# Altium footprint library O_JonF_DaveL.PcbLib: 331 footprints (part 2 of 21)
Each footprint in its own frame and in the unit in brackets; x right, y up, seen from the top. Pads: shape width x height; smd on the part's side, far side on the other; paste and mask are expansions set on the pad; w line width, h text height; cw(c..) or ccw(c..) is an arc to the next point about the centre after c.
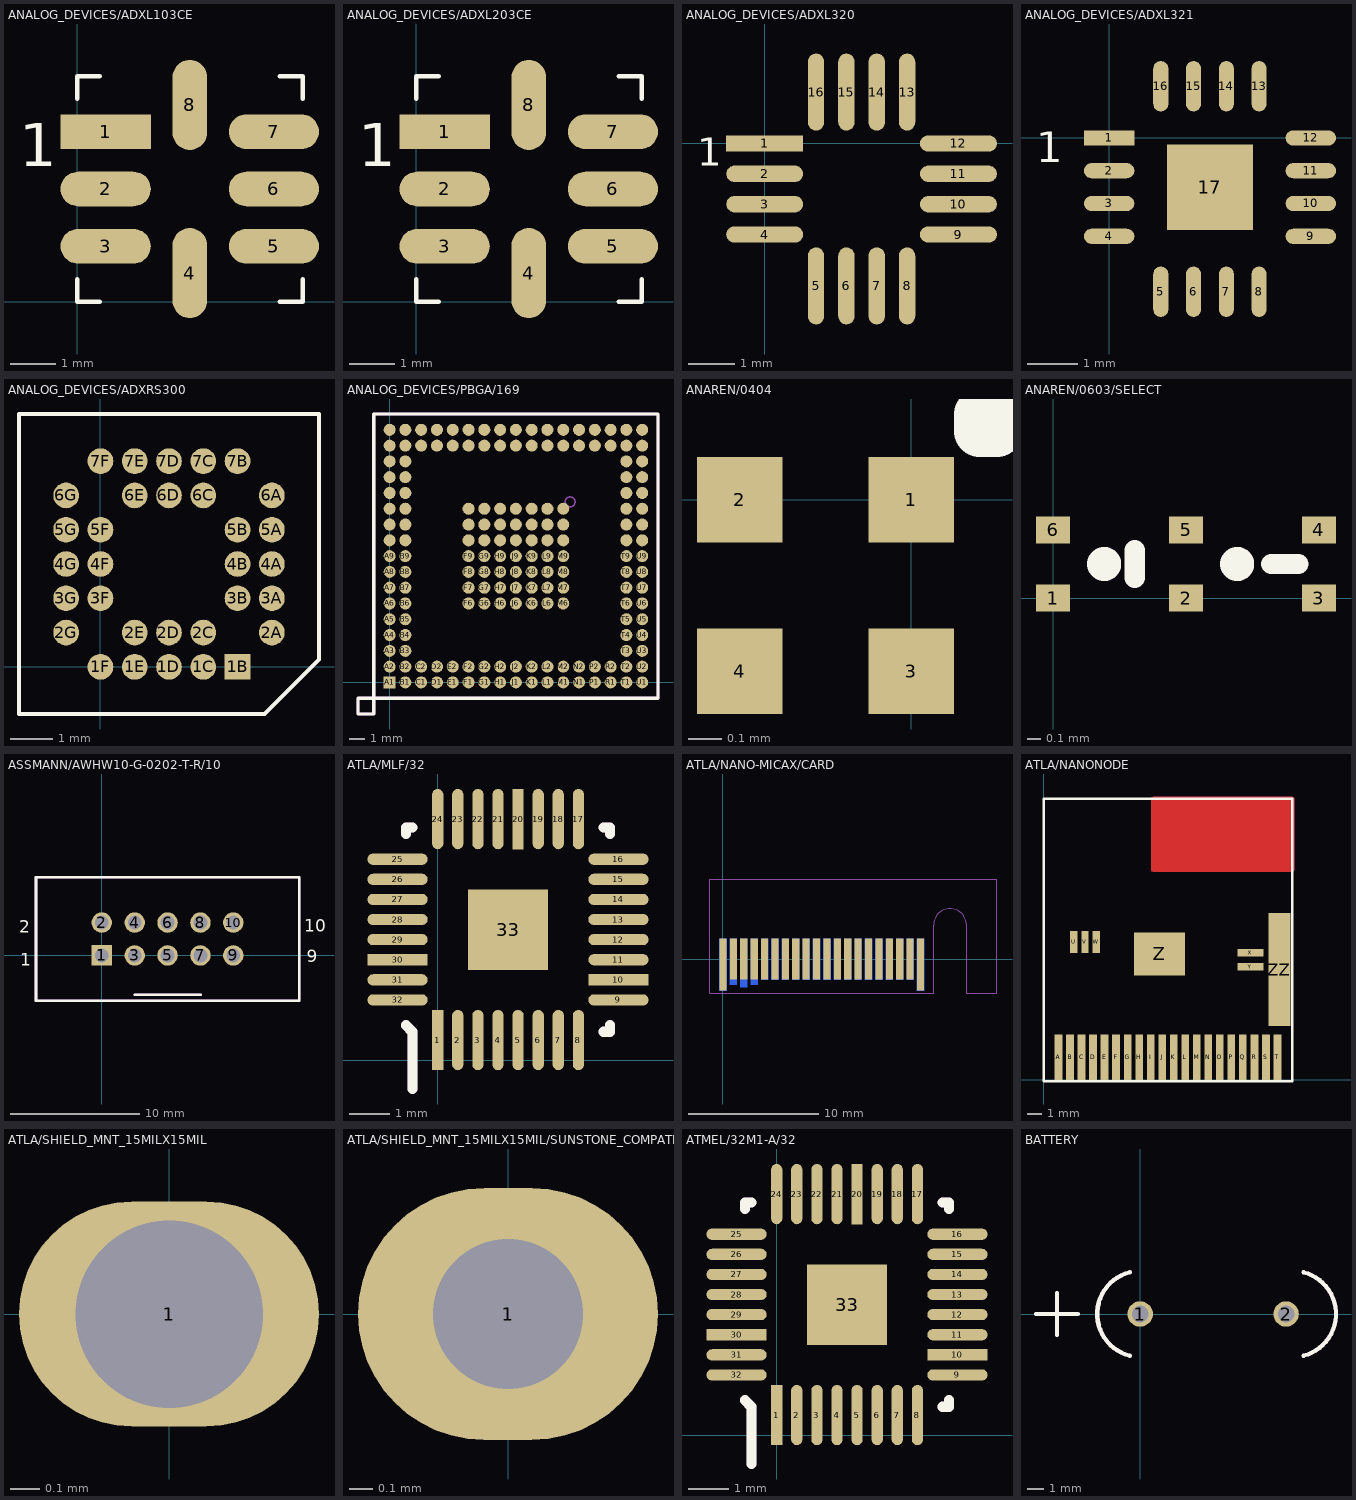
[diagram p1: the footprints below, top view; thin cyan lines are the x and y axes]

## ANALOG_DEVICES/ADXL103CE [mm]
pads (8):
  rect 2x0.768 smd: 1(0.635,3.77)
  oval 2x0.768 smd: 2(0.635,2.5) 3(0.635,1.23) 5(4.365,1.23) 6(4.365,2.5) 7(4.365,3.77)
  oval 0.768x2 smd: 4(2.5,0.635) 8(2.5,4.365)
Top Overlay:
  lines w0.1: 0,0.5 0,0 0.5,0 ; 0,4.5 0,5 0.5,5 ; 4.5,0 5,0 5,0.5 ; 4.5,5 5,5 5,4.5
  text "." at 2.381,2.716 h0.38
  text "1" at -1.288,3.01 h0.95
  text ".Designator" at -0.029,-2.146 h0.95
Mechanical 1:
  text ".Comment" at 0.055,-2.853 h0.95
  text ".Designator" at 6.191,-1.116 h0.95
  text ".Pattern" at -6.213,6.174 h0.57

## ANALOG_DEVICES/ADXL203CE [mm]
pads (8):
  rect 2x0.768 smd: 1(0.635,3.77)
  oval 2x0.768 smd: 2(0.635,2.5) 3(0.635,1.23) 5(4.365,1.23) 6(4.365,2.5) 7(4.365,3.77)
  oval 0.768x2 smd: 4(2.5,0.635) 8(2.5,4.365)
Top Overlay:
  lines w0.1: 0,0.5 0,0 0.5,0 ; 0,4.5 0,5 0.5,5 ; 4.5,0 5,0 5,0.5 ; 4.5,5 5,5 5,4.5
  text ".Designator" at -0.029,-2.146 h0.95
  text "1" at -1.288,3.01 h0.95
  text "." at 2.394,2.745 h0.38
Mechanical 1:
  text ".Pattern" at -6.213,6.174 h0.57
  text ".Designator" at 6.191,-1.116 h0.95
  text ".Comment" at 0.055,-2.853 h0.95

## ANALOG_DEVICES/ADXL320 [mm]
pads (16):
  rect 1.65x0.35 smd: 1(0,0)
  oval 1.65x0.35 smd: 2(0,-0.65) 3(0,-1.3) 4(0,-1.95) 9(4.15,-1.95) 10(4.15,-1.3) 11(4.15,-0.65) 12(4.15,0)
  oval 0.35x1.65 smd: 5(1.1,-3.05) 6(1.75,-3.05) 7(2.4,-3.05) 8(3.05,-3.05) 13(3.05,1.1) 14(2.4,1.1) 15(1.75,1.1) 16(1.1,1.1)
Top Overlay:
  text "1" at -1.45,-0.48 h0.6
  text ".Designator" at -1.46,2.58 h1.5
Mechanical 1:
  text ".Designator" at -1.5,2.63 h1.5
  text ".Comment" at -2.65,-11.42 h1.5
  text ".Pattern" at -1.89,-6.85 h1.5

## ANALOG_DEVICES/ADXL321 [mm]
pads (17):
  rect 1x0.3 smd: 1(0,0)
  oval 1x0.3 smd: 2(0,-0.65) 3(0,-1.3) 4(0,-1.95) 9(4,-1.95) 10(4,-1.3) 11(4,-0.65) 12(4,0)
  oval 0.3x1 smd: 5(1.025,-3.05) 6(1.675,-3.05) 7(2.325,-3.05) 8(2.975,-3.05) 13(2.975,1.025) 14(2.325,1.025) 15(1.675,1.025) 16(1.025,1.025)
  rect 1.7x1.7 smd: 17(2,-0.975)
Top Overlay:
  text ".Designator" at -1.46,2.58 h1.5
  text "1" at -1.45,-0.48 h0.6
Mechanical 1:
  text ".Designator" at -1.5,2.63 h1.5
  text ".Comment" at -2.65,-11.42 h1.5
  text ".Pattern" at -1.89,-6.85 h1.5

## ANALOG_DEVICES/ADXRS300 [mm]
pads (32):
  rect 0.6x0.6 smd: 1B(3.2,0)
  round 0.6 smd: 1C(2.4,0) 1D(1.6,0) 1E(0.8,0) 1F(0,0) 2A(4,0.8) 2C(2.4,0.8) 2D(1.6,0.8) 2E(0.8,0.8) 2G(-0.8,0.8) 3A(4,1.6) 3B(3.2,1.6) 3F(0,1.6) 3G(-0.8,1.6) 4A(4,2.4) 4B(3.2,2.4) 4F(0,2.4) 4G(-0.8,2.4) 5A(4,3.2) 5B(3.2,3.2) 5F(0,3.2) 5G(-0.8,3.2) 6A(4,4) 6C(2.4,4) 6D(1.6,4) 6E(0.8,4) 6G(-0.8,4) 7B(3.2,4.8) 7C(2.4,4.8) 7D(1.6,4.8) 7E(0.8,4.8) 7F(0,4.8)
Top Overlay:
  lines w0.1: -1.9,-1.1 -1.9,5.9 5.1,5.9 5.1,0.173 3.827,-1.1 -1.9,-1.1
  text ".Designator" at -1.916,6.276 h1.5
Mechanical 1:
  text ".Designator" at -1.915,6.233 h1.5
  text ".Comment" at -2.235,10.216 h1.5
  text ".Pattern" at -14.024,-3.786 h1.5

## ANALOG_DEVICES/PBGA/169 [mil]
pads (169):
  rect 30x30 smd: A1(0,0)
  round 30 smd: A2(0,39.37) A3(0,78.74) A4(0,118.11) A5(0,157.48) A6(0,196.85) A7(0,236.22) A8(0,275.59) A9(0,314.96) A10(0,354.33) A11(0,393.7) A12(0,433.07) A13(0,472.44) A14(0,511.81) A15(0,551.18) A16(0,590.55) A17(0,629.92) B1(39.37,0) B2(39.37,39.37) B3(39.37,78.74) B4(39.37,118.11) B5(39.37,157.48) B6(39.37,196.85) B7(39.37,236.22) B8(39.37,275.59) B9(39.37,314.96) B10(39.37,354.33) B11(39.37,393.7) B12(39.37,433.07) B13(39.37,472.44) B14(39.37,511.81) B15(39.37,551.18) B16(39.37,590.55) B17(39.37,629.92) C1(78.74,0) C2(78.74,39.37) C16(78.74,590.55) C17(78.74,629.92) D1(118.11,0) D2(118.11,39.37) D16(118.11,590.55) D17(118.11,629.92) E1(157.48,0) E2(157.48,39.37) E16(157.48,590.55) E17(157.48,629.92) F1(196.85,0) F2(196.85,39.37) F6(196.85,196.85) F7(196.85,236.22) F8(196.85,275.59) F9(196.85,314.96) F10(196.85,354.33) F11(196.85,393.7) F12(196.85,433.07) F16(196.85,590.55) F17(196.85,629.92) G1(236.22,0) G2(236.22,39.37) G6(236.22,196.85) G7(236.22,236.22) G8(236.22,275.59) G9(236.22,314.96) G10(236.22,354.33) G11(236.22,393.7) G12(236.22,433.07) G16(236.22,590.55) G17(236.22,629.92) H1(275.59,0) H2(275.59,39.37) H6(275.59,196.85) H7(275.59,236.22) H8(275.59,275.59) H9(275.59,314.96) H10(275.59,354.33) H11(275.59,393.7) H12(275.59,433.07) H16(275.59,590.55) H17(275.59,629.92) J1(314.96,0) J2(314.96,39.37) J6(314.96,196.85) J7(314.96,236.22) J8(314.96,275.59) J9(314.96,314.96) J10(314.96,354.33) J11(314.96,393.7) J12(314.96,433.07) J16(314.96,590.55) J17(314.96,629.92) K1(354.33,0) K2(354.33,39.37) K6(354.33,196.85) K7(354.33,236.22) K8(354.33,275.59) K9(354.33,314.96) K10(354.33,354.33) K11(354.33,393.7) K12(354.33,433.07) K16(354.33,590.55) K17(354.33,629.92) L1(393.7,0) L2(393.7,39.37) L6(393.7,196.85) L7(393.7,236.22) L8(393.7,275.59) L9(393.7,314.96) L10(393.7,354.33) L11(393.7,393.7) L12(393.7,433.07) L16(393.7,590.55) L17(393.7,629.92) M1(433.07,0) M2(433.07,39.37) M6(433.07,196.85) M7(433.07,236.22) M8(433.07,275.59) M9(433.07,314.96) M10(433.07,354.33) M11(433.07,393.7) M12(433.07,433.07) M16(433.07,590.55) M17(433.07,629.92) N1(472.44,0) N2(472.44,39.37) N16(472.44,590.55) N17(472.44,629.92) P1(511.81,0) P2(511.81,39.37) P16(511.81,590.55) P17(511.81,629.92) R1(551.18,0) R2(551.18,39.37) R16(551.18,590.55) R17(551.18,629.92) T1(590.55,0) T2(590.55,39.37) T3(590.55,78.74) T4(590.55,118.11) T5(590.55,157.48) T6(590.55,196.85) T7(590.55,236.22) T8(590.55,275.59) T9(590.55,314.96) T10(590.55,354.33) T11(590.55,393.7) T12(590.55,433.07) T13(590.55,472.44) T14(590.55,511.81) T15(590.55,551.18) T16(590.55,590.55) T17(590.55,629.92) U1(629.92,0) U2(629.92,39.37) U3(629.92,78.74) U4(629.92,118.11) U5(629.92,157.48) U6(629.92,196.85) U7(629.92,236.22) U8(629.92,275.59) U9(629.92,314.96) U10(629.92,354.33) U11(629.92,393.7) U12(629.92,433.07) U13(629.92,472.44) U14(629.92,511.81) U15(629.92,551.18) U16(629.92,590.55) U17(629.92,629.92)
Top Overlay:
  lines w8: -78.74,-78.74 -78.74,-39.37 669.29,-39.37 669.29,669.29 -39.37,669.29 -39.37,-78.74 -78.74,-78.74
  text ".Designator" at -19.45,-155.62 h37.5
Mechanical 1:
  lines w8: -78.74,-78.74 -78.74,-39.37 669.29,-39.37 669.29,669.29 -39.37,669.29 -39.37,-78.74 -78.74,-78.74
  text ".Pattern" at 0,956.63 h22.5
  text ".Comment" at 84.78,91.23 h37.5
  text ".Designator" at 79.96,498.12 h37.5
Mechanical 3:
  lines w4: 437.5,450 ccw(c450,450) 450,437.5 ccw(c450,450) 462.5,450 ccw(c450,450) 450,462.5 ccw(c450,450) 437.5,450

## ANAREN/0404 [mil]
pads (4):
  rect 10x10 smd: 1(0,0) 2(-20,0) 3(0,-20) 4(-20,-20)
Top Overlay:
  lines w6: 8,8 8,10 10,10 10,8 8,8
  text ".Designator" at -29,9.5 h56.25
Mechanical 1:
  text ".Pattern" at 0,0 h56.25
  text ".Comment" at 0,225 h56.25
  text ".Designator" at 0,337.5 h56.25

## ANAREN/0603/SELECT [mil]
pads (6):
  rect 10x8 smd: 1(0,0) 2(39,0) 3(78,0) 4(78,20) 5(39,20) 6(0,20)
Top Overlay:
  circle w6: c15,10 r2
  circle w6: c54,10 r2
  lines w6: 24,6 24,14 ; 64,10 72,10
  text ".Designator" at 0,337.5 h56.25
Mechanical 1:
  text ".Pattern" at 0,0 h56.25
  text ".Comment" at 0,225 h56.25
  text ".Designator" at 0,337.5 h56.25

## ASSMANN/AWHW10-G-0202-T-R/10 [mil]
pads (10):
  rect 62x62 hole 42: 1(0,0)
  round 62 hole 42: 2(0,100) 3(100,0) 4(100,100) 5(200,0) 6(200,100) 7(300,0) 8(300,100) 9(400,0) 10(400,100)
Top Overlay:
  lines w8: 100,-120 300,-120 ; -200,-138 600,-138 600,238 -200,238 -200,-138
  text "2" at -251.88,68.37 h37.5
  text "9" at 623.12,-20.63 h37.5
  text "10" at 615.22,72.37 h37.5
  text ".Designator" at -206.95,251.88 h37.5
  text "1" at -247.88,-31.63 h37.5
Mechanical 1:
  lines w8: 100,-120 300,-120 ; -200,-138 600,-138 600,238 -200,238 -200,-138
  text "2" at -251.88,68.37 h37.5
  text "9" at 622.12,-20.63 h37.5
  text "10" at 616.22,72.37 h37.5
  text ".Designator" at -206.95,251.88 h37.5
  text ".Comment" at -205.33,124.87 h37.5
  text ".Pattern" at -203.15,181.62 h22.5
  text "1" at -246.88,-32.63 h37.5

## ATLA/MLF/32 [mm]
pads (33):
  rect 0.279x1.5 smd: 1(0,0.5) 20(2.002,6)
  oval 0.279x1.5 smd: 2(0.5,0.5) 3(1.001,0.5) 4(1.501,0.5) 5(2.002,0.5) 6(2.502,0.5) 7(3.002,0.5) 8(3.503,0.5) 17(3.503,6) 18(3.002,6) 19(2.502,6) 21(1.501,6) 22(1.001,6) 23(0.5,6) 24(0,6)
  oval 1.5x0.279 smd: 9(4.5,1.499) 11(4.5,2.499) 12(4.5,3) 13(4.5,3.5) 14(4.5,4) 15(4.5,4.501) 16(4.5,5.001) 25(-1,5.001) 26(-1,4.501) 27(-1,4) 28(-1,3.5) 29(-1,3) 31(-1,1.999) 32(-1,1.499)
  rect 1.5x0.279 smd: 10(4.5,1.999) 30(-1,2.499)
  rect 2x2 smd: 33(1.752,3.246)
Top Overlay:
  lines w0.254: -0.79,0.869 -0.63,0.709 -0.63,-0.719 ; -0.79,5.631 -0.79,5.789 -0.63,5.789 ; 4.133,0.709 4.29,0.709 4.29,0.869 ; 4.133,5.789 4.29,5.789 4.29,5.631
  text ".Designator" at -6.239,-0.767 h0.95
Mechanical 1:
  lines w0.254: -0.79,0.869 -0.63,0.709 -0.63,-0.719 ; -0.79,5.631 -0.79,5.789 -0.63,5.789 ; 4.133,0.709 4.29,0.709 4.29,0.869 ; 4.133,5.789 4.29,5.789 4.29,5.631
  text ".Pattern" at -2.012,1.195 h0.57
  text ".Comment" at -0.341,4.043 h0.95
  text ".Designator" at 0.11,2.407 h0.95
  text "17" at 3.408,5.297 h0.95
  text "1" at -0.19,1.201 h0.95
Mechanical 3:
  lines w0.102: 1.433,3.249 ccw(c1.75,3.249) 1.75,2.931 ccw(c1.75,3.249) 2.068,3.249 ccw(c1.75,3.249) 1.75,3.566 ccw(c1.75,3.249) 1.433,3.249

## ATLA/NANO-MICAX/CARD [mm]
pads (40):
  rect 0.55x4 smd: 1(0,-0.425) 39(15.2,-0.425)
  rect 0.55x4 smd far side: 2(0,-0.425) 40(15.2,-0.425)
  rect 0.55x3.15 smd: 3(0.8,0) 5(1.6,0) 7(2.4,0) 9(3.2,0) 11(4,0) 13(4.8,0) 15(5.6,0) 17(6.4,0) 19(7.2,0) 21(8,0) 23(8.8,0) 25(9.6,0) 27(10.4,0) 29(11.2,0) 31(12,0) 33(12.8,0) 35(13.6,0) 37(14.4,0)
  rect 0.55x3.55 smd far side: 4(0.8,-0.2) 8(2.4,-0.2)
  rect 0.55x3.75 smd far side: 6(1.6,-0.3)
  rect 0.55x3.15 smd far side: 10(3.2,0) 12(4,0) 14(4.8,0) 16(5.6,0) 18(6.4,0) 20(7.2,0) 22(8,0) 24(8.8,0) 26(9.6,0) 28(10.4,0) 30(11.2,0) 32(12,0) 34(12.8,0) 36(13.6,0) 38(14.4,0)
Top Solder:
  region: 17.642,1.676 17.658,1.638 17.658,-3 17.642,-3.038 17.604,-3.054 -1.782,-3.054 -1.82,-3.038 -1.836,-3 -1.836,1.638 -1.82,1.676 -1.782,1.692 17.604,1.692
Bottom Solder:
  region: 17.642,1.676 17.658,1.638 17.658,-3 17.642,-3.038 17.604,-3.054 -1.782,-3.054 -1.82,-3.038 -1.836,-3 -1.836,1.638 -1.82,1.676 -1.782,1.692 17.604,1.692
Mechanical 1:
  lines w0.001: -1.001,-2.625 16.199,-2.625 16.199,2.605 cw(c17.469,2.605) 18.739,2.605 18.739,-2.625 21.084,-2.625 21.084,6.143 -1.001,6.143 -1.001,-2.625
  text ".Designator" at -0.791,1.993 h1.5
  text "TO REMAINDER OF PCB" at 25.35,-0.225 h1.43
  text "EDGE OF PCB ON THIS SIDE" at -8.65,-6.225 h1.43

## ATLA/NANONODE [mil]
pads (27):
  rect 21.63x124 smd: A(41,62) B(72.48,62) C(104,62) D(135.48,62) E(167,62) F(198.47,62) G(229.97,62) H(261.47,62) I(292.97,62) J(324.45,62) K(355.95,62) L(387.45,62) M(418.95,62) N(450.43,62) O(481.93,62) P(513.43,62) Q(544.93,62) R(576.42,62) S(607.92,62) T(639.42,62)
  rect 20x60 smd: U(82.5,378) V(113,378) W(144,378)
  rect 70x20 smd: X(566,348) Y(566,310)
  rect 140x118 smd: Z(317,345)
  rect 60x310 smd: ZZ(645,302)
Top Layer:
  pour cut-out: 683.83,773.83 685.41,770 685.41,575 683.83,571.17 680,569.59 300,569.59 296.17,571.17 294.59,575 294.59,770 296.17,773.83 300,775.41 680,775.41
Mid-Layer 1:
  pour cut-out: 683.83,773.83 685.41,770 685.41,575 683.83,571.17 680,569.59 300,569.59 296.17,571.17 294.59,575 294.59,770 296.17,773.83 300,775.41 680,775.41
Bottom Layer:
  pour cut-out: 683.83,773.83 685.41,770 685.41,575 683.83,571.17 680,569.59 300,569.59 296.17,571.17 294.59,575 294.59,770 296.17,773.83 300,775.41 680,775.41
Top Overlay:
  lines w7: 0,-4 680,-4 680,770 0,770 0,-4
  text ".Designator" at 6,789.32 h59.05
Internal Plane 1:
  region: 683.83,773.83 685.41,770 685.41,575 683.83,571.17 680,569.59 300,569.59 296.17,571.17 294.59,575 294.59,770 296.17,773.83 300,775.41 680,775.41
Mechanical 1:
  text "VOID ALL METAL IN THIS SPACE -- ANTENNA" at 356,644 h30
  text ".Designator" at 715,355.32 h59.05
  text ".Comment" at 715,237.22 h59.05
  text ".Pattern" at 715,1 h59.05

## ATLA/SHIELD_MNT_15MILX15MIL [mil]
pads (1):
  oval 40x30 hole 25: 1(0,0)
Top Overlay:
  text ".Designator" at 0,337.5 h56.25
Mechanical 1:
  text ".Designator" at 0,337.5 h56.25
  text ".Comment" at 0,225 h56.25
  text ".Pattern" at 0,0 h56.25

## ATLA/SHIELD_MNT_15MILX15MIL/SUNSTONE_COMPATIBLE [mil]
pads (1):
  oval 50x42 / inner round 42 / far side oval 50x42 hole 25: 1(0,0)
Top Overlay:
  text ".Designator" at 0,337.5 h56.25
Mechanical 1:
  text ".Pattern" at 0,0 h56.25
  text ".Comment" at 0,225 h56.25
  text ".Designator" at 0,337.5 h56.25

## ATMEL/32M1-A/32 [mm]
pads (33):
  rect 0.279x1.5 smd: 1(0,0.5) 20(2.002,6)
  oval 0.279x1.5 smd: 2(0.5,0.5) 3(1.001,0.5) 4(1.501,0.5) 5(2.002,0.5) 6(2.502,0.5) 7(3.002,0.5) 8(3.503,0.5) 17(3.503,6) 18(3.002,6) 19(2.502,6) 21(1.501,6) 22(1.001,6) 23(0.5,6) 24(0,6)
  oval 1.5x0.279 smd: 9(4.5,1.499) 11(4.5,2.499) 12(4.5,3) 13(4.5,3.5) 14(4.5,4) 15(4.5,4.501) 16(4.5,5.001) 25(-1,5.001) 26(-1,4.501) 27(-1,4) 28(-1,3.5) 29(-1,3) 31(-1,1.999) 32(-1,1.499)
  rect 1.5x0.279 smd: 10(4.5,1.999) 30(-1,2.499)
  rect 2x2 smd: 33(1.752,3.246)
Top Overlay:
  lines w0.254: -0.79,0.869 -0.63,0.709 -0.63,-0.719 ; -0.79,5.631 -0.79,5.789 -0.63,5.789 ; 4.133,0.709 4.29,0.709 4.29,0.869 ; 4.133,5.789 4.29,5.789 4.29,5.631
  text ".Designator" at -6.239,-0.767 h0.95
Mechanical 1:
  lines w0.254: -0.79,0.869 -0.63,0.709 -0.63,-0.719 ; -0.79,5.631 -0.79,5.789 -0.63,5.789 ; 4.133,0.709 4.29,0.709 4.29,0.869 ; 4.133,5.789 4.29,5.789 4.29,5.631
  text "1" at -0.19,1.201 h0.95
  text "17" at 3.408,5.297 h0.95
  text ".Designator" at 0.11,2.407 h0.95
  text ".Comment" at -0.341,4.043 h0.95
  text ".Pattern" at -2.012,1.195 h0.57
Mechanical 3:
  lines w0.102: 1.433,3.249 cw(c1.75,3.249) 1.75,3.566 cw(c1.75,3.249) 2.068,3.249 cw(c1.75,3.249) 1.75,2.931 cw(c1.75,3.249) 1.433,3.249

## BATTERY [mil]
pads (2):
  round 61 hole 40: 1(0,0) 2(350,0)
Top Overlay:
  lines w10: -250,0 -150,0 ; -200,-50 -200,50 ; -25,-100 cw(c0,0) -25,100 ; 391.67,-100 ccw(c366.67,0) 391.67,100
  text ".Designator" at 85.45,104.38 h37.5
Mechanical 1:
  lines w10: -250,0 -150,0 ; -200,-50 -200,50 ; -25,-100 cw(c0,0) -25,100 ; 391.67,-100 ccw(c366.67,0) 391.67,100
  text ".Pattern" at -6.43,-18.38 h22.5
  text ".Comment" at 117.67,-81.23 h37.5
  text ".Designator" at 135.45,29.38 h37.5